# Altium schematic symbol library LMR604404SBRAKRQ1.SchLib: 1 symbol
Pins are listed as number, name and electrical type; pins without a type are passive.

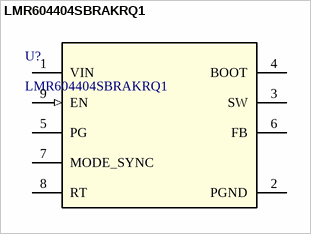
[diagram p0: symbol LMR604404SBRAKRQ1]

## LMR604404SBRAKRQ1
designator U?
Automotive, 36V, 4A synchronous buck converter with low Iq and high efficiency with minimized COUT 9-WQFN-HR -40 to 150; Manufacturer_Name: Texas Instruments; TYPE: TYPE; RefDes: RefDes; Copyright: Copyright (C) 2026 Ultra Librarian. All rights reserved.; Manufacturer_Part_Number: LMR604404SBRAKRQ1; Datasheet: https://www.ti.com/lit/gpn/lmr60440-q1
footprint RAK0009A-MFG
pins: 1 VIN (power), 2 PGND (oc), 3 SW, 4 BOOT, 5 PG (oc), 6 FB, 7 MODE_SYNC, 8 RT, 9 EN (in)